# Altium footprint library KYOCERA_PKG_TAJC.PcbLib: 1 footprints
Each footprint in its own frame and in the unit in brackets; x right, y up, seen from the top. Pads: shape width x height; smd on the part's side, far side on the other; paste and mask are expansions set on the pad; w line width, h text height; cw(c..) or ccw(c..) is an arc to the next point about the centre after c.
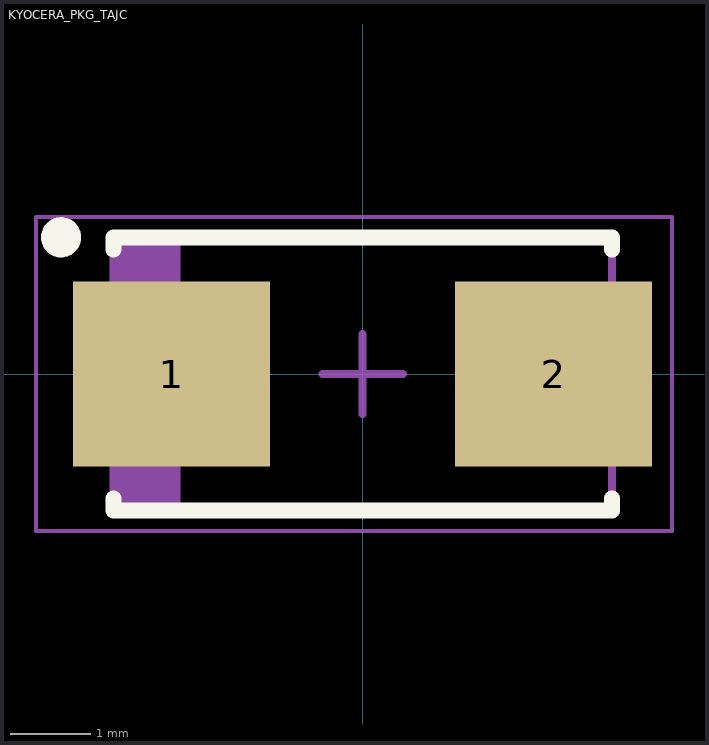
[diagram p0: the footprint, top view; thin cyan lines are the x and y axes]

## KYOCERA_PKG_TAJC [mm]
height 1.6
pads (2):
  rect 2.45x2.3 smd: 1(-2.375,0) 2(2.375,0)
Top Overlay:
  circle w0.25: c-3.75,1.7 r0.125
  lines w0.2: -3.1,-1.55 -3.1,-1.7 3.1,-1.7 3.1,-1.55 ; -3.1,1.55 -3.1,1.7 3.1,1.7 3.1,1.55
Mechanical 13:
  rectangle: -3.1,-1.7 -2.266,1.7
  lines w0.1: -3.1,-1.7 3.1,-1.7 3.1,1.7 -3.1,1.7 -3.1,-1.7
Mechanical 15:
  lines w0.05: -4.064,-1.95 3.85,-1.95 3.85,1.95 -4.064,1.95 -4.064,-1.95
  lines w0.1: -0.5,0 0.5,0 ; 0,-0.5 0,0.5
3D body: height 2.8, standoff 0, extent -3.1,-1.7 3.1,1.7